# Altium schematic symbol library OPA862IDTKR.SchLib: 2 symbols
Pins are listed as number, name and electrical type; pins without a type are passive.

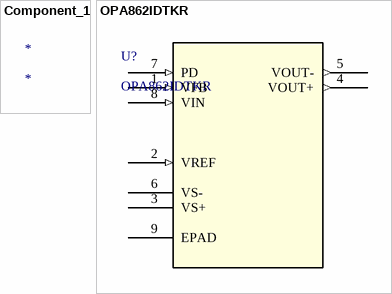
[diagram p0: symbols Component_1 to OPA862IDTKR]

## Component_1
designator *

## OPA862IDTKR
designator U?
No Description Available; Mfr_Name: Texas Instruments; Copyright: Copyright (C) 2023 Ultra Librarian. All rights reserved.; Manufacturer_Part_Number: OPA862IDTKR; RefDes: RefDes; Type: DEV
footprint U_WQFN8_DTK_TEX
pins: 1 VFB (in), 2 VREF (in), 3 VS+ (power), 4 VOUT+ (out), 5 VOUT- (out), 6 VS- (power), 7 PD (in), 8 VIN (in), 9 EPAD (power)